# EAGLE library part LT3092 (library linear-technology)
Very Low Dropout Linear Regulator
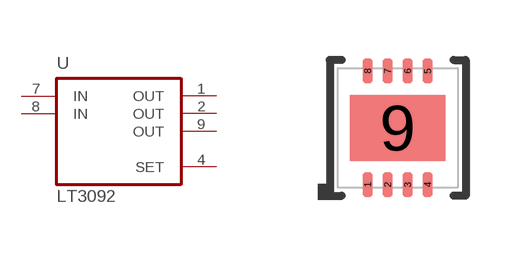
[diagram p50: symbol with the pads of DFN8-3X3; footprint DFN8-3X3]

Designator prefix U

## LT3092  [DFN8-3X3]
1  OUT  pas
2  OUT  pas
4  SET  in
7  IN  pas
8  IN  pas
9  OUT  pas

## Footprint DFN8-3X3 (pad centres in mm)
DFN-8 3x3mm body
smd 0.25 x 0.6: 1 -0.75,-1.425; 2 -0.25,-1.425; 3 0.25,-1.425; 4 0.75,-1.425; 5 0.75,1.425; 6 0.25,1.425; 7 -0.25,1.425; 8 -0.75,1.425
smd 2.38 x 1.65: 9 0,0